# Altium footprint library us9116-006-n.PcbLib: 1 footprints
Each footprint in its own frame and in the unit in brackets; x right, y up, seen from the top. Pads: shape width x height; smd on the part's side, far side on the other; paste and mask are expansions set on the pad; w line width, h text height; cw(c..) or ccw(c..) is an arc to the next point about the centre after c.
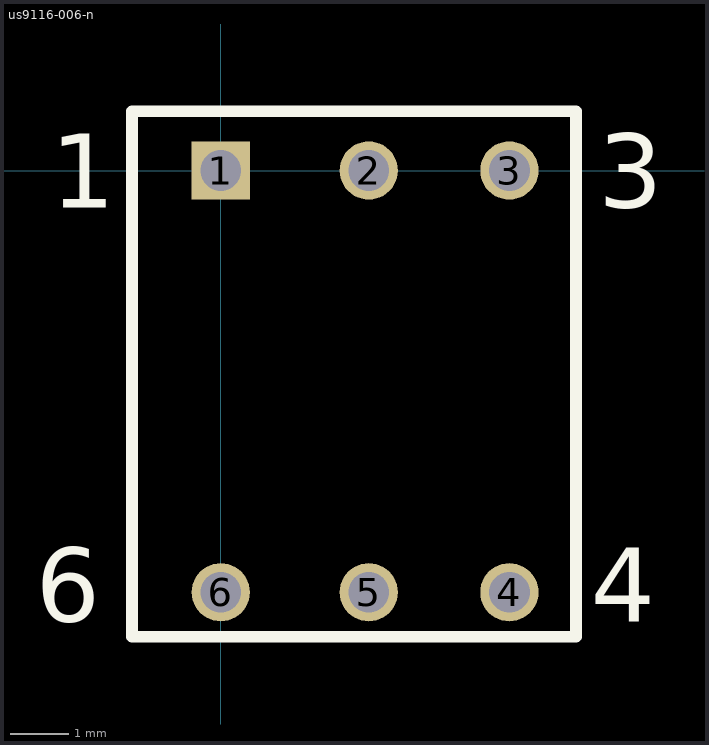
[diagram p0: the footprint, top view; thin cyan lines are the x and y axes]

## us9116-006-n [mm]
pads (6):
  rect 1x1 hole 0.7: 1(0,0)
  round 1 hole 0.7: 2(2.54,0) 3(4.953,0) 4(4.953,-7.239) 5(2.54,-7.239) 6(0,-7.239)
Top Overlay:
  lines w0.2: -1.524,-8.001 -1.524,1.016 6.096,1.016 6.096,-8.001 -1.524,-8.001
  text "1" at -2.921,-0.635 h1.27
  text "3" at 6.477,-0.635 h1.27
  text "4" at 6.35,-7.747 h1.27
  text "6" at -3.175,-7.747 h1.27